# Altium schematic symbol library MP1593DN-LF-Z.SchLib: 2 symbols
Pins are listed as number, name and electrical type; pins without a type are passive.

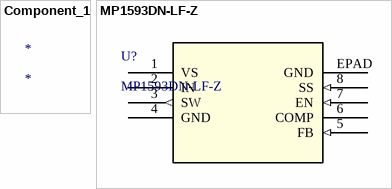
[diagram p0: symbols Component_1 to MP1593DN-LF-Z]

## Component_1
designator *

## MP1593DN-LF-Z
designator U?
3A 28V 385KHz Step-Down Converter; Manufacturer_Name: Monolithic Power Systems; Copyright: Copyright (C) 2025 Ultra Librarian. All rights reserved.; Manufacturer_Part_Number: MP1593DN-LF-Z; Datasheet: https://www.monolithicpower.com/en/documentview/productdocument/index/version/2/document_type/Datasheet/lang/en/sku/MP1593; RefDes: RefDes; Type: Type
footprint SOIC8E_MNP
pins: 1 VS (power), 2 IN (power), 3 SW (out), 4 GND (power), 5 FB (in), 6 COMP, 7 EN (in), 8 SS (in), EPAD GND (power)